# Altium footprint library IC.PcbLib: 51 footprints (part 2 of 4)
Each footprint in its own frame and in the unit in brackets; x right, y up, seen from the top. Pads: shape width x height; smd on the part's side, far side on the other; paste and mask are expansions set on the pad; w line width, h text height; cw(c..) or ccw(c..) is an arc to the next point about the centre after c.
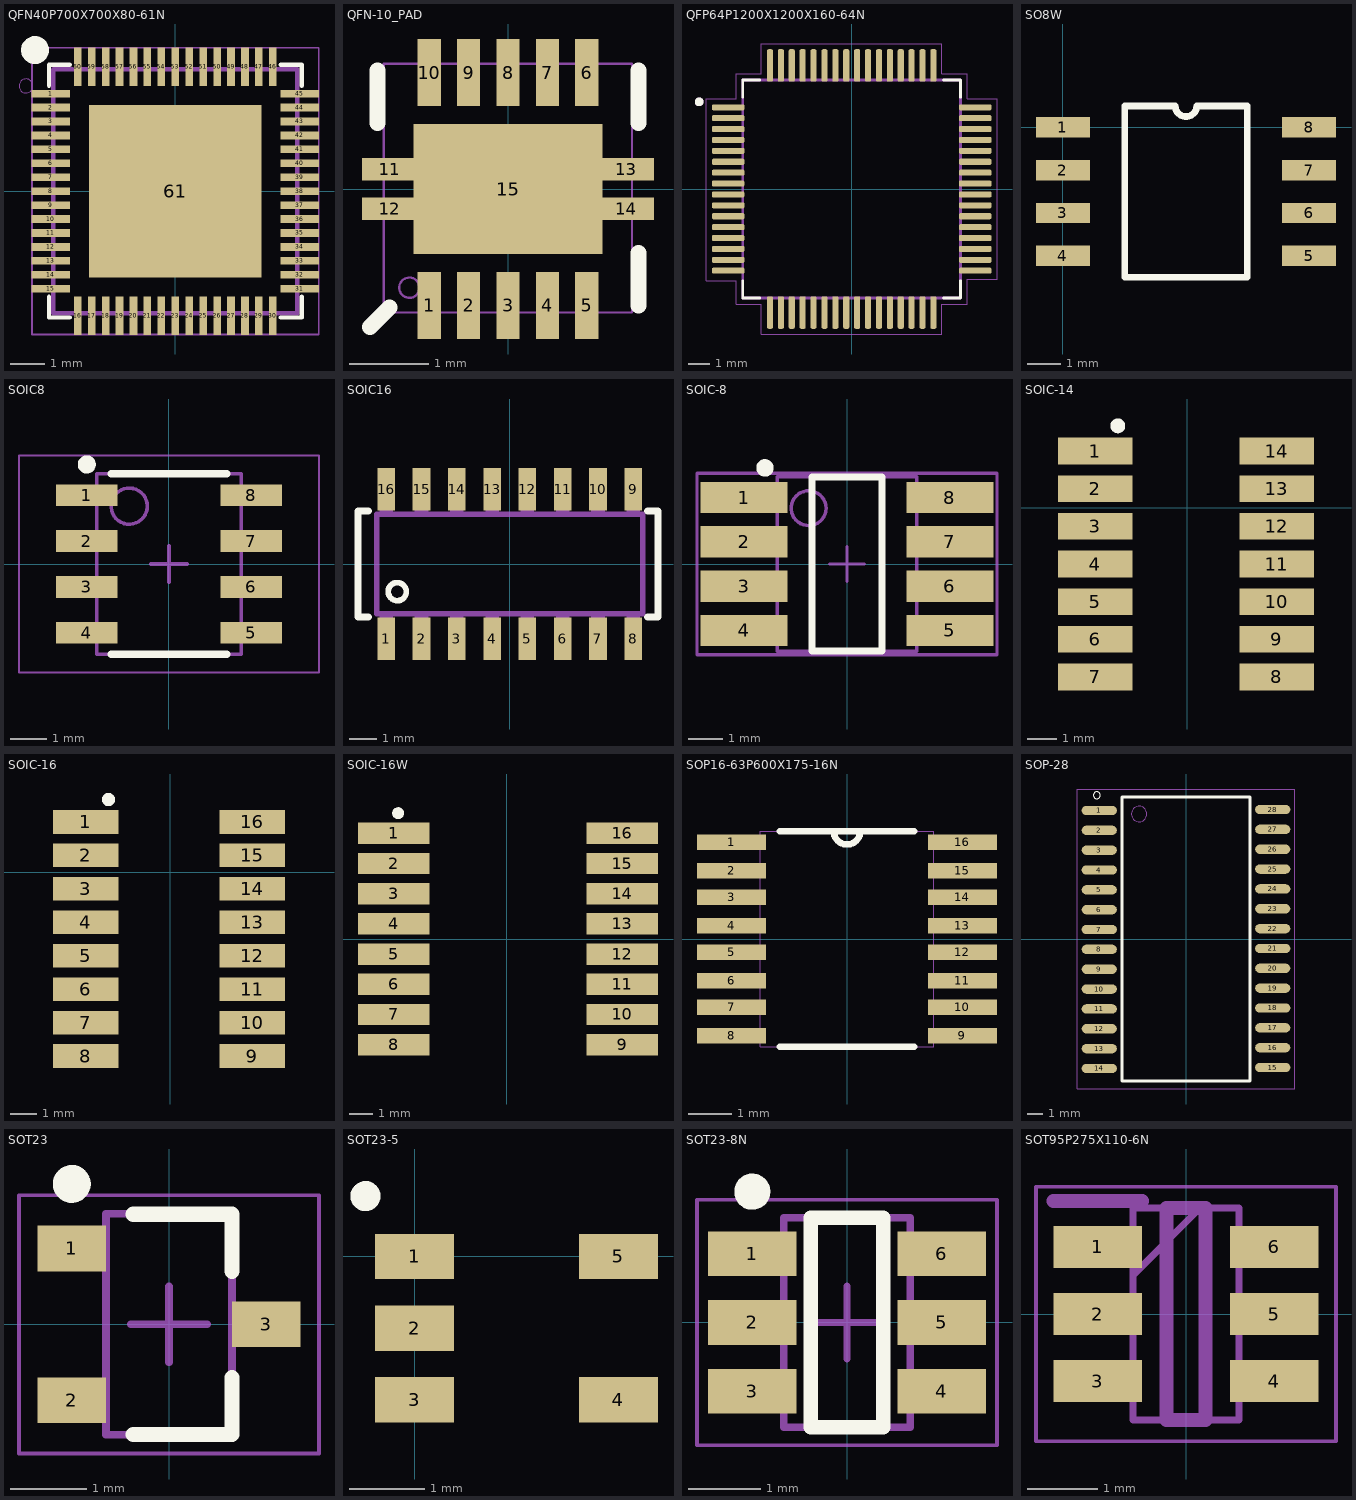
[diagram p1: the footprints below, top view; thin cyan lines are the x and y axes]

## QFN40P700X700X80-61N [mm]
pads (61):
  rect 1.1x0.22 smd: 1(-3.575,2.8) 2(-3.575,2.4) 3(-3.575,2) 4(-3.575,1.6) 5(-3.575,1.2) 6(-3.575,0.8) 7(-3.575,0.4) 8(-3.575,0) 9(-3.575,-0.4) 10(-3.575,-0.8) 11(-3.575,-1.2) 12(-3.575,-1.6) 13(-3.575,-2) 14(-3.575,-2.4) 15(-3.575,-2.8) 31(3.575,-2.8) 32(3.575,-2.4) 33(3.575,-2) 34(3.575,-1.6) 35(3.575,-1.2) 36(3.575,-0.8) 37(3.575,-0.4) 38(3.575,0) 39(3.575,0.4) 40(3.575,0.8) 41(3.575,1.2) 42(3.575,1.6) 43(3.575,2) 44(3.575,2.4) 45(3.575,2.8)
  rect 0.22x1.1 smd: 16(-2.8,-3.575) 17(-2.4,-3.575) 18(-2,-3.575) 19(-1.6,-3.575) 20(-1.2,-3.575) 21(-0.8,-3.575) 22(-0.4,-3.575) 23(0,-3.575) 24(0.4,-3.575) 25(0.8,-3.575) 26(1.2,-3.575) 27(1.6,-3.575) 28(2,-3.575) 29(2.4,-3.575) 30(2.8,-3.575) 46(2.8,3.575) 47(2.4,3.575) 48(2,3.575) 49(1.6,3.575) 50(1.2,3.575) 51(0.8,3.575) 52(0.4,3.575) 53(0,3.575) 54(-0.4,3.575) 55(-0.8,3.575) 56(-1.2,3.575) 57(-1.6,3.575) 58(-2,3.575) 59(-2.4,3.575) 60(-2.8,3.575)
  rect 4.95x4.95 smd: 61(0,0)
Top Overlay:
  circle w0.4: c-4.025,4.05 r0.2
  lines w0.127: -3.625,-3.025 -3.625,-3.625 -3.025,-3.625 ; -3.625,3.025 -3.625,3.625 -3.025,3.625 ; 3.025,-3.625 3.625,-3.625 3.625,-3.025 ; 3.025,3.625 3.625,3.625 3.625,3.025
Top Paste:
  region: 0.32,-0.32 2.16,-0.32 2.16,-2.16 0.32,-2.16
  region: -2.16,-0.32 -0.32,-0.32 -0.32,-2.16 -2.16,-2.16
  region: -2.16,2.16 -0.32,2.16 -0.32,0.32 -2.16,0.32
  region: 0.32,2.16 2.16,2.16 2.16,0.32 0.32,0.32
Mechanical 4:
  circle w0: c-4.285,3.02 r0.2
  circle w0: c-4.285,3.02 r0.2
  lines w0.127: -3.5,-3.5 -3.5,3.5 ; -3.5,-3.5 3.5,-3.5 ; -3.5,-3.5 -3.5,3.5 ; -3.5,-3.5 3.5,-3.5 ; -3.5,3.5 3.5,3.5 ; -3.5,3.5 3.5,3.5 ; 3.5,-3.5 3.5,3.5 ; 3.5,-3.5 3.5,3.5
Mechanical 16:
  lines w0.05: -4.115,-4.115 -4.115,4.115 4.115,4.115 4.115,-4.115 -4.115,-4.115

## QFN-10_PAD [mm]
pads (15):
  rect 0.297x0.85 smd: 1(-1,-1.475) 2(-0.5,-1.475) 3(0,-1.475) 4(0.5,-1.475) 5(1,-1.475) 6(1,1.475) 7(0.5,1.475) 8(0,1.475) 9(-0.5,1.475) 10(-1,1.475)
  rect 0.7x0.28 smd: 11(-1.5,0.25) 12(-1.5,-0.25) 13(1.5,0.25) 14(1.5,-0.25)
  rect 2.4x1.65 smd: 15(0,0)
Top Overlay:
  lines w0.203: -1.75,-1.75 -1.5,-1.5 ; -1.651,0.838 -1.651,1.499 ; 1.651,-1.473 1.651,-0.813 ; 1.651,0.838 1.651,1.499
Top Paste:
  region: -1.197,0.432 1.194,0.432 1.194,-0.433 -1.197,-0.433
Mechanical 1:
  circle w0.03: c-1.25,-1.25 r0.129
  lines w0.03: -1.575,-1.565 1.57,-1.565 1.57,1.585 -1.575,1.585 -1.575,-1.565

## QFP64P1200X1200X160-64N [mm]
pads (64):
  rrect50% 1.49x0.28 smd: 1(-5.67,3.75) 2(-5.67,3.25) 3(-5.67,2.75) 4(-5.67,2.25) 5(-5.67,1.75) 6(-5.67,1.25) 7(-5.67,0.75) 8(-5.67,0.25) 9(-5.67,-0.25) 10(-5.67,-0.75) 11(-5.67,-1.25) 12(-5.67,-1.75) 13(-5.67,-2.25) 14(-5.67,-2.75) 15(-5.67,-3.25) 16(-5.67,-3.75) 33(5.67,-3.75) 34(5.67,-3.25) 35(5.67,-2.75) 36(5.67,-2.25) 37(5.67,-1.75) 38(5.67,-1.25) 39(5.67,-0.75) 40(5.67,-0.25) 41(5.67,0.25) 42(5.67,0.75) 43(5.67,1.25) 44(5.67,1.75) 45(5.67,2.25) 46(5.67,2.75) 47(5.67,3.25) 48(5.67,3.75)
  rrect50% 0.28x1.49 smd: 17(-3.75,-5.67) 18(-3.25,-5.67) 19(-2.75,-5.67) 20(-2.25,-5.67) 21(-1.75,-5.67) 22(-1.25,-5.67) 23(-0.75,-5.67) 24(-0.25,-5.67) 25(0.25,-5.67) 26(0.75,-5.67) 27(1.25,-5.67) 28(1.75,-5.67) 29(2.25,-5.67) 30(2.75,-5.67) 31(3.25,-5.67) 32(3.75,-5.67) 49(3.75,5.67) 50(3.25,5.67) 51(2.75,5.67) 52(2.25,5.67) 53(1.75,5.67) 54(1.25,5.67) 55(0.75,5.67) 56(0.25,5.67) 57(-0.25,5.67) 58(-0.75,5.67) 59(-1.25,5.67) 60(-1.75,5.67) 61(-2.25,5.67) 62(-2.75,5.67) 63(-3.25,5.67) 64(-3.75,5.67)
Top Overlay:
  circle w0.2: c-7,4 r0.1
  lines w0.127: -5,-4.216 -5,-5 -4.216,-5 ; -5,4.216 -5,5 -4.216,5 ; 4.216,-5 5,-5 5,-4.216 ; 4.216,5 5,5 5,4.216
Mechanical 13:
  circle w0.2: c-7,4 r0.1
  lines w0.127: -5,-5 5,-5 5,5 -5,5 -5,-5
Mechanical 15:
  lines w0.05: -6.67,-4.2 -5.3,-4.2 -5.3,-5.3 -4.14,-5.3 -4.14,-6.67 4.14,-6.67 4.14,-5.3 5.3,-5.3 5.3,-4.14 6.67,-4.14 6.67,4.14 5.3,4.14 5.3,5.3 4.14,5.3 4.14,6.67 -4.14,6.67 -4.14,5.3 -5.3,5.3 -5.3,4.14 -6.67,4.14 -6.67,-4.2
3D body "User Library-TQFP64_05.step": height 1.2, standoff 0, extent -6,-6 6,6

## SO8W [mm]
pads (8):
  rect 1.6x0.6 smd: 1(0,0) 2(0,-1.27) 3(0,-2.54) 4(0,-3.81) 5(7.3,-3.81) 6(7.3,-2.54) 7(7.3,-1.27) 8(7.3,0)
Top Overlay:
  lines w0.2: 1.835,-4.445 5.465,-4.445 5.465,0.635 3.967,0.635 cw(c3.65,0.635) 3.332,0.635 1.835,0.635 1.835,-4.445
3D body "User Library-SOIC8_Wide_5mmx5mm.step": height 1.72, standoff -0.03, extent -0.402,-4.655 7.7,0.805

## SOIC8 [mm] "SOIC, 8-Leads, Body 4,90x3,90mm, Pitch 1,27mm, IPC Low Density"
height 1.75
pads (8):
  rect 1.7x0.6 smd: 1(-2.275,1.905) 2(-2.275,0.635) 3(-2.275,-0.635) 4(-2.275,-1.905) 5(2.275,-1.905) 6(2.275,-0.635) 7(2.275,0.635) 8(2.275,1.905)
Top Overlay:
  circle w0.25: c-2.275,2.755 r0.125
  lines w0.2: -1.6,-2.5 1.6,-2.5 ; -1.6,2.5 1.6,2.5
Mechanical 13:
  circle w0.1: c-1.1,1.6 r0.5
  lines w0.1: -2,-2.5 2,-2.5 2,2.5 -2,2.5 -2,-2.5
Mechanical 15:
  lines w0.05: -4.15,-3 4.15,-3 4.15,3 -4.15,3 -4.15,-3
  lines w0.1: -0.5,0 0.5,0 ; 0,-0.5 0,0.5
3D body: height 1.75, standoff 0.1, extent -2,-2.5 2,2.5

## SOIC16 [mil]
pads (16):
  rect 25x60 smd: 1(-175,-106.1) 2(-125,-106.1) 3(-75,-106.1) 4(-25,-106.1) 5(25,-106.1) 6(75,-106.1) 7(125,-106.1) 8(175,-106.1) 9(175,106.1) 10(125,106.1) 11(75,106.1) 12(25,106.1) 13(-25,106.1) 14(-75,106.1) 15(-125,106.1) 16(-175,106.1)
Top Overlay:
  circle w8: c-159.45,-39.17 r12.82
  lines w10: -200,-75 -215,-75 -215,75 -200,75 ; 195,-75 210,-75 210,75 195,75
Mechanical 18:
  rectangle: -184.65,-115 -165.35,-74.61
  rectangle: -134.65,-115 -115.35,-74.61
  rectangle: -84.65,-115 -65.35,-74.61
  rectangle: -34.65,-115 -15.35,-74.61
  rectangle: 15.35,-115 34.65,-74.61
  rectangle: 65.35,-115 84.65,-74.61
  rectangle: 115.35,-115 134.65,-74.61
  rectangle: 165.35,-115 184.65,-74.61
  rectangle: 165.35,74.61 184.65,115
  rectangle: 115.35,74.61 134.65,115
  rectangle: 65.35,74.61 84.65,115
  rectangle: 15.35,74.61 34.65,115
  rectangle: -34.65,74.61 -15.35,115
  rectangle: -84.65,74.61 -65.35,115
  rectangle: -134.65,74.61 -115.35,115
  rectangle: -184.65,74.61 -165.35,115
  lines w8: -188.58,-70.67 188.58,-70.67 188.58,70.67 -188.58,70.67 -188.58,-70.67

## SOIC-8 [mm]
height 1.75
pads (8):
  rect 2.5x0.9 smd: 1(-2.95,1.905) 2(-2.95,0.635) 3(-2.95,-0.635) 4(-2.95,-1.905) 5(2.95,-1.905) 6(2.95,-0.635) 7(2.95,0.635) 8(2.95,1.905)
Top Overlay:
  circle w0.25: c-2.35,2.755 r0.125
  lines w0.2: -1,-2.5 -1,2.5 1,2.5 1,-2.5 -1,-2.5
Mechanical 13:
  circle w0.1: c-1.1,1.6 r0.5
  lines w0.1: -2,-2.5 -2,2.5 2,2.5 2,-2.5 -2,-2.5
Mechanical 15:
  lines w0.1: -0.5,0 0.5,0 ; 0,-0.5 0,0.5 ; -4.3,-2.6 -4.3,2.6 4.3,2.6 4.3,-2.6 -4.3,-2.6
3D body "SOIC8.step": height 1.75, standoff 0, extent -3,-2.45 3,2.45

## SOIC-14 [mm]
height 1.75
pads (14):
  rect 2.5x0.9 smd: 1(-3.113,1.905) 2(-3.113,0.635) 3(-3.113,-0.635) 4(-3.113,-1.905) 5(-3.113,-3.175) 6(-3.113,-4.445) 7(-3.113,-5.715) 8(3.013,-5.715) 9(3.013,-4.445) 10(3.013,-3.175) 11(3.013,-1.905) 12(3.013,-0.635) 13(3.013,0.635) 14(3.013,1.905)
Top Overlay:
  circle w0.25: c-2.35,2.755 r0.125
3D body "SOIC-14.stp": height 1.75, standoff 0, extent -3.048,-6.28 3.032,2.47

## SOIC-16 [mm]
height 1.75
pads (16):
  rect 2.5x0.9 smd: 1(-3.213,1.905) 2(-3.213,0.635) 3(-3.213,-0.635) 4(-3.213,-1.905) 5(-3.213,-3.175) 6(-3.213,-4.445) 7(-3.213,-5.715) 8(-3.213,-6.985) 9(3.113,-6.985) 10(3.113,-5.715) 11(3.113,-4.445) 12(3.113,-3.175) 13(3.113,-1.905) 14(3.113,-0.635) 15(3.113,0.635) 16(3.113,1.905)
Top Overlay:
  circle w0.25: c-2.35,2.755 r0.125
3D body "SOIC-16.stp": height 1.75, standoff 0, extent -3.032,-7.54 3.048,2.46

## SOIC-16W [mm]
height 1.75
pads (16):
  rect 3x0.9 smd: 1(-4.763,4.445) 2(-4.763,3.175) 3(-4.763,1.905) 4(-4.763,0.635) 5(-4.763,-0.635) 6(-4.763,-1.905) 7(-4.763,-3.175) 8(-4.763,-4.445) 9(4.863,-4.445) 10(4.863,-3.175) 11(4.863,-1.905) 12(4.863,-0.635) 13(4.863,0.635) 14(4.863,1.905) 15(4.863,3.175) 16(4.863,4.445)
Top Overlay:
  circle w0.25: c-4.573,5.295 r0.125
3D body "SOIC-16W.stp": height 2.65, standoff 0, extent -5.2,-5.25 5.2,5.25

## SOP16-63P600X175-16N [mil]
pads (16):
  rect 63x14 smd: 1(-105,88) 2(-105,62) 3(-105,38) 4(-105,12) 5(-105,-12) 6(-105,-38) 7(-105,-62) 8(-105,-88) 9(105,-88) 10(105,-62) 11(105,-38) 12(105,-12) 13(105,12) 14(105,38) 15(105,62) 16(105,88)
Top Overlay:
  lines w6: -61,-98 61,-98 ; -61,98 -12,98 ; 61,98 12,98 ; -12,98 ccw(c0,98) 12,98 ; -12,98 12,98
Mechanical 13:
  lines w0: -12,98 ccw(c0,98) 12,98 ; -12,98 12,98 ; -12,98 -79,98 -79,-98 79,-98 79,98 12,98 ; -122,-93 -122,-82 -79,-82 -79,-93 -122,-93 ; -122,-68 -122,-57 -79,-57 -79,-68 -122,-68 ; -122,-43 -122,-32 -79,-32 -79,-43 -122,-43 ; -122,-18 -122,-7 -79,-7 -79,-18 -122,-18 ; -122,7 -122,18 -79,18 -79,7 -122,7 ; -122,32 -122,43 -79,43 -79,32 -122,32 ; -122,57 -122,68 -79,68 -79,57 -122,57 ; -122,82 -122,93 -79,93 -79,82 -122,82 ; 79,-93 79,-82 122,-82 122,-93 79,-93 ; 79,-68 79,-57 122,-57 122,-68 79,-68 ; 79,-43 79,-32 122,-32 122,-43 79,-43 ; 79,-18 79,-7 122,-7 122,-18 79,-18 ; 79,7 79,18 122,18 122,7 79,7 ; 79,32 79,43 122,43 122,32 79,32 ; 79,57 79,68 122,68 122,57 79,57 ; 79,82 79,93 122,93 122,82 79,82
3D body "User Library-User Library-MAX_QSOP16.step": height 67.32, standoff -2.4, extent -118.5,-98.03 118.5,98.04

## SOP-28 [mm]
pads (28):
  oval 2.25x0.6 smd: 1(-5.55,8.225) 2(-5.55,6.955) 3(-5.55,5.685) 4(-5.55,4.415) 5(-5.55,3.145) 6(-5.55,1.875) 7(-5.55,0.605) 8(-5.55,-0.665) 9(-5.55,-1.935) 10(-5.55,-3.205) 11(-5.55,-4.475) 12(-5.55,-5.745) 13(-5.55,-7.015) 14(-5.55,-8.285) 15(5.55,-8.225) 16(5.55,-6.955) 17(5.55,-5.685) 18(5.55,-4.415) 19(5.55,-3.145) 20(5.55,-1.875) 21(5.55,-0.605) 22(5.55,0.665) 23(5.55,1.935) 24(5.55,3.205) 25(5.55,4.475) 26(5.55,5.745) 27(5.55,7.015) 28(5.55,8.285)
Top Overlay:
  circle w0: c-5.7,9.2 r0.224
  lines w0.2: -4.1,-9.1 4.1,-9.1 4.1,9.1 -4.1,9.1 -4.1,-9.1
Mechanical 13:
  circle w0: c-3,8 r0.5
Mechanical 15:
  lines w0.05: -6.95,-9.6 6.95,-9.6 6.95,9.6 -6.95,9.6 -6.95,-9.6
3D body "SOP28.stp": height 2.8, standoff 0, extent -5.1,-8.875 5.1,8.875

## SOT23 [mm] "SOT23, 3-Leads, Body 2,90x2,60mm, Pitch 1,00mm, IPC Medium Density"
height 1.08
pads (3):
  rect 0.9x0.6 smd: 1(-1.28,1) 2(-1.28,-1) 3(1.28,0)
Top Overlay:
  circle w0.25: c-1.28,1.85 r0.125
  lines w0.2: -0.47,-1.45 0.83,-1.45 0.83,-0.7 ; -0.47,1.45 0.83,1.45 0.83,0.7
Mechanical 13:
  lines w0.1: -0.83,-1.455 0.83,-1.455 0.83,1.455 -0.83,1.455 -0.83,-1.455
Mechanical 15:
  lines w0.05: -1.975,-1.7 1.975,-1.7 1.975,1.7 -1.975,1.7 -1.975,-1.7
  lines w0.1: -0.5,0 0.5,0 ; 0,-0.5 0,0.5
3D body: height 1.08, standoff 0.09, extent -0.83,-1.455 0.83,1.455

## SOT23-5 [mm] "5-pin OPAMP"
pads (5):
  rect 1.05x0.6 smd: 1(0,0) 2(0,-0.95) 3(0,-1.9) 4(2.7,-1.9) 5(2.7,0)
Top Overlay:
  circle w0.2: c-0.65,0.8 r0.1
3D body "User Library-R-PDSO-G5.STEP": height 1.3, standoff -0.15, extent -0.15,-2.475 2.85,0.575

## SOT23-8N [mm] "6-Lead Plastic TSOT-23"
height 1
pads (6):
  rect 1.22x0.62 smd: 1(-1.31,0.95) 2(-1.31,0) 3(-1.31,-0.95) 4(1.31,-0.95) 5(1.31,0) 6(1.31,0.95)
Top Overlay:
  circle w0.25: c-1.31,1.81 r0.125
  lines w0.2: -0.5,-1.45 -0.5,1.45 0.5,1.45 0.5,-1.45 -0.5,-1.45
Mechanical 13:
  lines w0.1: -0.875,-1.45 0.875,-1.45 0.875,1.45 -0.875,1.45 -0.875,-1.45
Mechanical 15:
  lines w0.05: -2.075,-1.7 2.075,-1.7 2.075,1.7 -2.075,1.7 -2.075,-1.7
  lines w0.1: -0.5,0 0.5,0 ; 0,-0.5 0,0.5
3D body: height 1, standoff 0.01, extent -0.875,-1.45 0.875,1.45

## SOT95P275X110-6N [mm]
pads (6):
  rect 1.25x0.6 smd: 1(-1.25,0.95) 2(-1.25,0) 3(-1.25,-0.95) 4(1.25,-0.95) 5(1.25,0) 6(1.25,0.95)
Mechanical 2:
  lines w0.2: -1.875,1.6 -0.625,1.6 ; -0.275,-1.5 0.275,-1.5 0.275,1.5 -0.275,1.5 -0.275,-1.5
Mechanical 18:
  lines w0.05: -2.125,-1.8 2.125,-1.8 2.125,1.8 -2.125,1.8 -2.125,-1.8
  lines w0.1: -0.75,0.55 0.2,1.5 ; -0.75,-1.5 0.75,-1.5 0.75,1.5 -0.75,1.5 -0.75,-1.5